# Altium schematic symbol library Epson.SchLib: 1 symbol
Pins are listed as number, name and electrical type; pins without a type are passive.

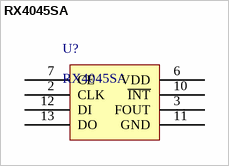
[diagram p0: symbol RX4045SA]

## RX4045SA
designator U?
Value: RX4045SA
footprint RX4045SA (Footprint not found)
pins: 2 CLK, 3 FOUT, 6 VDD, 7 CE, 10 ~{INT}, 11 GND, 12 DI, 13 DO